# Altium footprint library THS3091.PcbLib: 4 footprints
Each footprint in its own frame and in the unit in brackets; x right, y up, seen from the top. Pads: shape width x height; smd on the part's side, far side on the other; paste and mask are expansions set on the pad; w line width, h text height; cw(c..) or ccw(c..) is an arc to the next point about the centre after c.
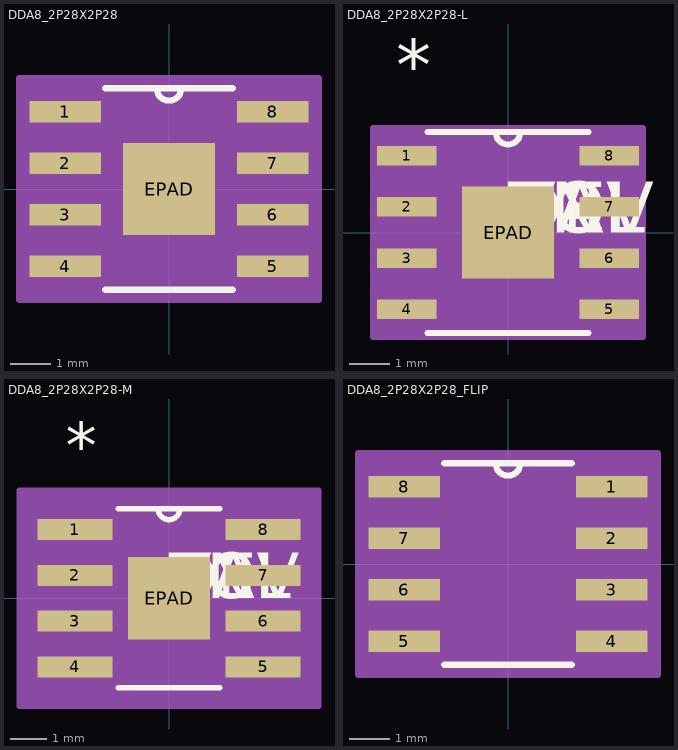
[diagram p0: the footprints below, top view; thin cyan lines are the x and y axes]

## DDA8_2P28X2P28 [mil]
pads (9):
  rect 70x21 smd: 1(-101,75) 2(-101,25) 3(-101,-25) 4(-101,-75) 5(101,-75) 6(101,-25) 7(101,25) 8(101,75)
  rect 89.76x89.76 smd paste-44.38: EPAD(0,0)
Top Overlay:
  lines w6: -62.08,-98 62.08,-98 ; -62.08,98 62.08,98 ; -12,98 ccw(c0,98) 12,98
Top Paste:
  region: 44.88,44.88 -44.88,44.88 -44.88,-44.88 44.88,-44.88
Mechanical 13:
  lines w0: -12,98 ccw(c0,98) 12,98
Mechanical 15:
  region: 146,-108 -146,-108 -146,108 146,108
  lines w6: -146,-108 -146,108 146,108 146,-108 -146,-108
3D body "DDA8_2P28X2P28.stp": height 66.1, standoff -2, extent -122,-98 122,98

## DDA8_2P28X2P28-L [mil]
pads (9):
  rect 58x19 smd: 1(-99,75) 2(-99,25) 3(-99,-25) 4(-99,-75) 5(99,-75) 6(99,-25) 7(99,25) 8(99,75)
  rect 89.76x89.76 smd paste-44.38: EPAD(0,0)
Top Overlay:
  lines w6: -78.5,-98 78.5,-98 ; -78.5,98 78.5,98 ; -12,98 ccw(c0,98) 12,98
  text "*" at -109,139 h50
  text "PN" at 0,0 h50
  text "DEV" at 0,0 h50
  text "VAL" at 0,0 h50
  text "TOL" at 0,0 h50
Top Paste:
  region: 44.88,44.88 -44.88,44.88 -44.88,-44.88 44.88,-44.88
Mechanical 13:
  lines w0: -12,98 ccw(c0,98) 12,98
  text "*" at -109,139 h50
  text "RefDes2" at 0,0 h50
Mechanical 15:
  region: 132,-102 -132,-102 -132,102 132,102
  lines w6: -132,-102 -132,102 132,102 132,-102 -132,-102
3D body "DDA8_2P28X2P28-L.stp": height 66.1, standoff -2, extent -122,-98 122,98

## DDA8_2P28X2P28-M [mil]
pads (9):
  rect 82x23 smd: 1(-103,75) 2(-103,25) 3(-103,-25) 4(-103,-75) 5(103,-75) 6(103,-25) 7(103,25) 8(103,75)
  rect 89.76x89.76 smd paste-44.38: EPAD(0,0)
Top Overlay:
  lines w6: -55.73,-98 55.73,-98 ; -55.73,98 55.73,98 ; -12,98 ccw(c0,98) 12,98
  text "*" at -113,143 h50
  text "PN" at 0,0 h50
  text "DEV" at 0,0 h50
  text "VAL" at 0,0 h50
  text "TOL" at 0,0 h50
Top Paste:
  region: 44.88,44.88 -44.88,44.88 -44.88,-44.88 44.88,-44.88
Mechanical 13:
  lines w0: -12,98 ccw(c0,98) 12,98
  text "*" at -113,143 h50
  text "RefDes2" at 0,0 h50
Mechanical 15:
  region: 164,-118 -164,-118 -164,118 164,118
  lines w6: -164,-118 -164,118 164,118 164,-118 -164,-118
3D body "DDA8_2P28X2P28-M.stp": height 66.1, standoff -2, extent -122,-98 122,98

## DDA8_2P28X2P28_FLIP [mil]
pads (8):
  rect 70x21 smd: 1(101,75) 2(101,25) 3(101,-25) 4(101,-75) 5(-101,-75) 6(-101,-25) 7(-101,25) 8(-101,75)
Top Overlay:
  lines w6: -62.08,-98 62.08,-98 ; -62.08,98 62.08,98 ; -12,98 ccw(c0,98) 12,98
Mechanical 13:
  lines w0: -12,98 ccw(c0,98) 12,98
Mechanical 15:
  region: 146,-108 -146,-108 -146,108 146,108
  lines w6: -146,-108 -146,108 146,108 146,-108 -146,-108
3D body "DDA8_2P28X2P28.stp": height 2, standoff -66.1, extent -122,-98 122,98